# Altium schematic symbol library 封装.SchLib: 12 symbols
Pins are listed as number, name and electrical type; pins without a type are passive.

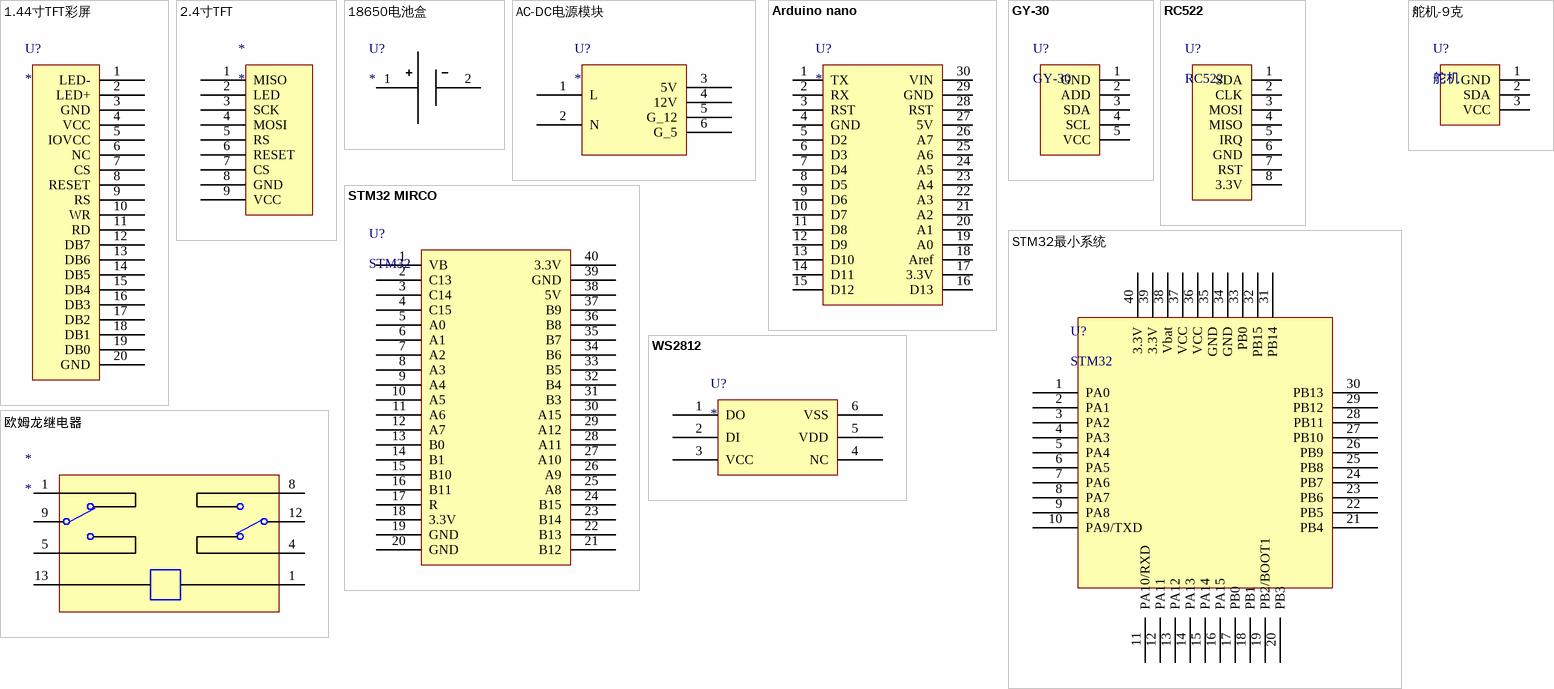
[diagram p0: symbols 1.44寸TFT彩屏 to 舵机-9克]

## 1.44寸TFT彩屏
designator U?
footprint 1.44寸TFT (1.44寸 并行TFT(买的--咸鱼至尊宝))
pins: 1 LED-, 2 LED+, 3 GND, 4 VCC, 5 IOVCC, 6 NC, 7 CS, 8 RESET, 9 RS, 10 WR, 11 RD, 12 DB7, 13 DB6, 14 DB5, 15 DB4, 16 DB3, 17 DB2, 18 DB1, 19 DB0, 20 GND

## 2.4寸TFT
designator *
footprint 2.2-TFT-SPI  240X320 (红色的TFT彩屏2.2寸)
pins: 1 MISO, 2 LED, 3 SCK, 4 MOSI, 5 RS, 6 RESET, 7 CS, 8 GND, 9 VCC

## 18650电池盒
designator U?
footprint 18650电池盒 (单节的18650电池盒)
pins: 1 +, 2 -

## AC-DC电源模块
designator U?
220V转12V和5V电源模块
footprint AC-DC电源模块 (220V转12V和5V电源模块)
pins: 1 L, 2 N, 3 5V, 4 12V, 5 G_12, 6 G_5

## Arduino nano
designator U?
footprint Arduino nano
pins: 1 TX, 2 RX, 3 RST, 4 GND, 5 D2, 6 D3, 7 D4, 8 D5, 9 D6, 10 D7, 11 D8, 12 D9, 13 D10, 14 D11, 15 D12, 16 D13, 17 3.3V, 18 Aref, 19 A0, 20 A1, 21 A2, 22 A3, 23 A4, 24 A5, 25 A6, 26 A7, 27 5V, 28 RST, 29 GND, 30 VIN

## GY-30
designator U?
光线强度传感器
footprint GY-30
pins: 1 GND, 2 ADD, 3 SDA, 4 SCL, 5 VCC

## RC522
designator U?
射频识别模块RFID
footprint RC522
pins: 1 SDA, 2 CLK, 3 MOSI, 4 MISO, 5 IRQ, 6 GND, 7 RST, 8 3.3V

## STM32 MIRCO
designator U?, comment STM32
STM32F103C8T6最小系统
footprint STM32 mirco
pins: 1 VB, 2 C13, 3 C14, 4 C15, 5 A0, 6 A1, 7 A2, 8 A3, 9 A4, 10 A5, 11 A6, 12 A7, 13 B0, 14 B1, 15 B10, 16 B11, 17 R, 18 3.3V, 19 GND, 20 GND, 21 B12, 22 B13, 23 B14, 24 B15, 25 A8, 26 A9, 27 A10, 28 A11, 29 A12, 30 A15, 31 B3, 32 B4, 33 B5, 34 B6, 35 B7, 36 B8, 37 B9, 38 5V, 39 GND, 40 3.3V

## STM32最小系统
designator U?, comment STM32
STM32最小系统自制
footprint STM32自制最小系统 (Footprint not found)
footprint STM32自制最小系统 (Footprint not found)
pins: 1 PA0, 2 PA1, 3 PA2, 4 PA3, 5 PA4, 6 PA5, 7 PA6, 8 PA7, 9 PA8, 10 PA9/TXD, 11 PA10/RXD, 12 PA11, 13 PA12, 14 PA13, 15 PA14, 16 PA15, 17 PB0, 18 PB1, 19 PB2/BOOT1, 20 PB3, 21 PB4, 22 PB5, 23 PB6, 24 PB7, 25 PB8, 26 PB9, 27 PB10, 28 PB11, 29 PB12, 30 PB13, 31 PB14, 32 PB15, 33 PB0, 34 GND, 35 GND, 36 VCC, 37 VCC, 38 Vbat, 39 3.3V, 40 3.3V

## WS2812
designator U?
基于单总线的RGB LED灯
footprint WS2812 (全彩LED)
pins: 1 DO, 2 DI, 3 VCC, 4 NC, 5 VDD, 6 VSS

## 欧姆龙继电器
designator *
footprint 欧姆龙继电器 (欧姆龙通用继电器)
pins: 1, 1, 4, 5, 8, 9, 12, 13

## 舵机-9克
designator U?, comment 舵机
pins: 1 GND, 2 SDA, 3 VCC